# Altium integrated library AD Logic Switch.IntLib: 6 symbols
Pins are listed as number, name and electrical type; pins without a type are passive.

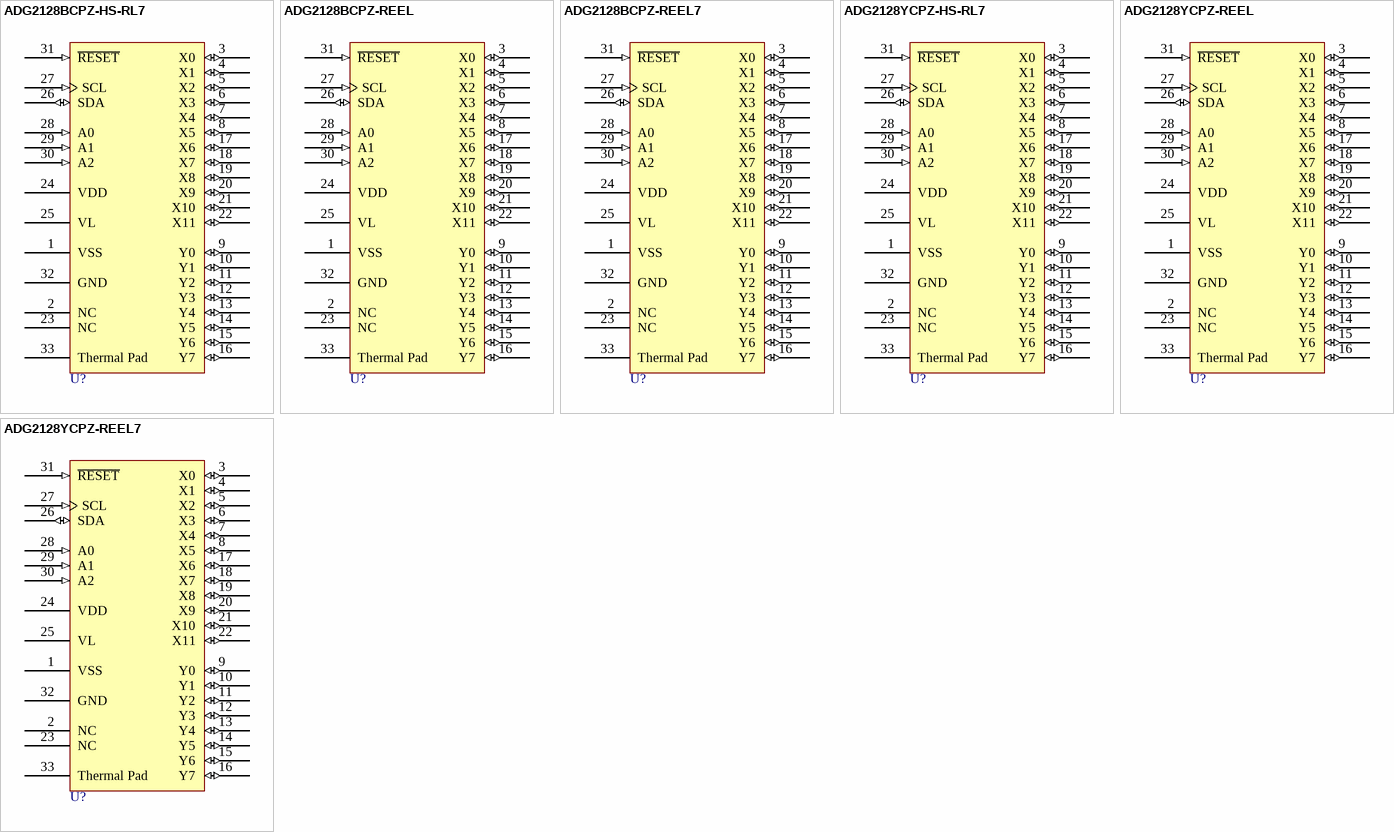
[diagram p0: symbols ADG2128BCPZ-HS-RL7 to ADG2128YCPZ-REEL7]

## ADG2128BCPZ-HS-RL7
designator U?
I2C CMOS 8x12 Unbuffered Analog Switch Array with Dual/Single Supplies; Published: 30-May-2008; DatasheetVersion: revA, May-2006; PackageVersion: May-2006; PackageReference: CP-32-3; Publisher: Altium Limited; PackageDescription: 32-Pin Lead Frame Chip Scale Package [LFCSP_VQ]; Code_JEDEC: MO-220-VHHD-2; ComponentLink1Description: Manufacturer Link; ComponentLink1URL: http://www.analog.com/; ComponentLink2Description: Datasheet; ComponentLink2URL: http://www.analog.com/UploadedFiles/Data_Sheets/ADG2128.pdf
footprint CP-32-3_N (QFN, 32-Leads, Body 5x5mm, Pitch 0.5mm, IPC Medium Density)
footprint CP-32-3_L (QFN, 32-Leads, Body 5x5mm, Pitch 0.5mm, IPC High Density)
footprint CP-32-3_M (QFN, 32-Leads, Body 5x5mm, Pitch 0.5mm, IPC Low Density)
pins: 1 VSS (power), 2 NC, 3 X0 (io), 4 X1 (io), 5 X2 (io), 6 X3 (io), 7 X4 (io), 8 X5 (io), 9 Y0 (io), 10 Y1 (io), 11 Y2 (io), 12 Y3 (io), 13 Y4 (io), 14 Y5 (io), 15 Y6 (io), 16 Y7 (io), 17 X6 (io), 18 X7 (io), 19 X8 (io), 20 X9 (io), 21 X10 (io), 22 X11 (io), 23 NC, 24 VDD (power), 25 VL (power), 26 SDA (io), 27 SCL (in), 28 A0 (in), 29 A1 (in), 30 A2 (in), 31 ~{RESET} (in), 32 GND (power), 33 Thermal Pad

## ADG2128BCPZ-REEL
designator U?
I2C CMOS 8x12 Unbuffered Analog Switch Array with Dual/Single Supplies; Published: 30-May-2008; DatasheetVersion: revA, May-2006; PackageVersion: May-2006; PackageReference: CP-32-3; Publisher: Altium Limited; PackageDescription: 32-Pin Lead Frame Chip Scale Package [LFCSP_VQ]; Code_JEDEC: MO-220-VHHD-2; ComponentLink1Description: Manufacturer Link; ComponentLink1URL: http://www.analog.com/; ComponentLink2Description: Datasheet; ComponentLink2URL: http://www.analog.com/UploadedFiles/Data_Sheets/ADG2128.pdf
footprint CP-32-3_N (QFN, 32-Leads, Body 5x5mm, Pitch 0.5mm, IPC Medium Density)
footprint CP-32-3_L (QFN, 32-Leads, Body 5x5mm, Pitch 0.5mm, IPC High Density)
footprint CP-32-3_M (QFN, 32-Leads, Body 5x5mm, Pitch 0.5mm, IPC Low Density)
pins: 1 VSS (power), 2 NC, 3 X0 (io), 4 X1 (io), 5 X2 (io), 6 X3 (io), 7 X4 (io), 8 X5 (io), 9 Y0 (io), 10 Y1 (io), 11 Y2 (io), 12 Y3 (io), 13 Y4 (io), 14 Y5 (io), 15 Y6 (io), 16 Y7 (io), 17 X6 (io), 18 X7 (io), 19 X8 (io), 20 X9 (io), 21 X10 (io), 22 X11 (io), 23 NC, 24 VDD (power), 25 VL (power), 26 SDA (io), 27 SCL (in), 28 A0 (in), 29 A1 (in), 30 A2 (in), 31 ~{RESET} (in), 32 GND (power), 33 Thermal Pad

## ADG2128BCPZ-REEL7
designator U?
I2C CMOS 8x12 Unbuffered Analog Switch Array with Dual/Single Supplies; Published: 30-May-2008; DatasheetVersion: revA, May-2006; PackageVersion: May-2006; PackageReference: CP-32-3; Publisher: Altium Limited; PackageDescription: 32-Pin Lead Frame Chip Scale Package [LFCSP_VQ]; Code_JEDEC: MO-220-VHHD-2; ComponentLink1Description: Manufacturer Link; ComponentLink1URL: http://www.analog.com/; ComponentLink2Description: Datasheet; ComponentLink2URL: http://www.analog.com/UploadedFiles/Data_Sheets/ADG2128.pdf
footprint CP-32-3_N (QFN, 32-Leads, Body 5x5mm, Pitch 0.5mm, IPC Medium Density)
footprint CP-32-3_L (QFN, 32-Leads, Body 5x5mm, Pitch 0.5mm, IPC High Density)
footprint CP-32-3_M (QFN, 32-Leads, Body 5x5mm, Pitch 0.5mm, IPC Low Density)
pins: 1 VSS (power), 2 NC, 3 X0 (io), 4 X1 (io), 5 X2 (io), 6 X3 (io), 7 X4 (io), 8 X5 (io), 9 Y0 (io), 10 Y1 (io), 11 Y2 (io), 12 Y3 (io), 13 Y4 (io), 14 Y5 (io), 15 Y6 (io), 16 Y7 (io), 17 X6 (io), 18 X7 (io), 19 X8 (io), 20 X9 (io), 21 X10 (io), 22 X11 (io), 23 NC, 24 VDD (power), 25 VL (power), 26 SDA (io), 27 SCL (in), 28 A0 (in), 29 A1 (in), 30 A2 (in), 31 ~{RESET} (in), 32 GND (power), 33 Thermal Pad

## ADG2128YCPZ-HS-RL7
designator U?
I2C CMOS 8x12 Unbuffered Analog Switch Array with Dual/Single Supplies; Published: 30-May-2008; DatasheetVersion: revA, May-2006; PackageVersion: May-2006; PackageReference: CP-32-3; Publisher: Altium Limited; PackageDescription: 32-Pin Lead Frame Chip Scale Package [LFCSP_VQ]; Code_JEDEC: MO-220-VHHD-2; ComponentLink1Description: Manufacturer Link; ComponentLink1URL: http://www.analog.com/; ComponentLink2Description: Datasheet; ComponentLink2URL: http://www.analog.com/UploadedFiles/Data_Sheets/ADG2128.pdf
footprint CP-32-3_N (QFN, 32-Leads, Body 5x5mm, Pitch 0.5mm, IPC Medium Density)
footprint CP-32-3_L (QFN, 32-Leads, Body 5x5mm, Pitch 0.5mm, IPC High Density)
footprint CP-32-3_M (QFN, 32-Leads, Body 5x5mm, Pitch 0.5mm, IPC Low Density)
pins: 1 VSS (power), 2 NC, 3 X0 (io), 4 X1 (io), 5 X2 (io), 6 X3 (io), 7 X4 (io), 8 X5 (io), 9 Y0 (io), 10 Y1 (io), 11 Y2 (io), 12 Y3 (io), 13 Y4 (io), 14 Y5 (io), 15 Y6 (io), 16 Y7 (io), 17 X6 (io), 18 X7 (io), 19 X8 (io), 20 X9 (io), 21 X10 (io), 22 X11 (io), 23 NC, 24 VDD (power), 25 VL (power), 26 SDA (io), 27 SCL (in), 28 A0 (in), 29 A1 (in), 30 A2 (in), 31 ~{RESET} (in), 32 GND (power), 33 Thermal Pad

## ADG2128YCPZ-REEL
designator U?
I2C CMOS 8x12 Unbuffered Analog Switch Array with Dual/Single Supplies; Published: 30-May-2008; DatasheetVersion: revA, May-2006; PackageVersion: May-2006; PackageReference: CP-32-3; Publisher: Altium Limited; PackageDescription: 32-Pin Lead Frame Chip Scale Package [LFCSP_VQ]; Code_JEDEC: MO-220-VHHD-2; ComponentLink1Description: Manufacturer Link; ComponentLink1URL: http://www.analog.com/; ComponentLink2Description: Datasheet; ComponentLink2URL: http://www.analog.com/UploadedFiles/Data_Sheets/ADG2128.pdf
footprint CP-32-3_N (QFN, 32-Leads, Body 5x5mm, Pitch 0.5mm, IPC Medium Density)
footprint CP-32-3_L (QFN, 32-Leads, Body 5x5mm, Pitch 0.5mm, IPC High Density)
footprint CP-32-3_M (QFN, 32-Leads, Body 5x5mm, Pitch 0.5mm, IPC Low Density)
pins: 1 VSS (power), 2 NC, 3 X0 (io), 4 X1 (io), 5 X2 (io), 6 X3 (io), 7 X4 (io), 8 X5 (io), 9 Y0 (io), 10 Y1 (io), 11 Y2 (io), 12 Y3 (io), 13 Y4 (io), 14 Y5 (io), 15 Y6 (io), 16 Y7 (io), 17 X6 (io), 18 X7 (io), 19 X8 (io), 20 X9 (io), 21 X10 (io), 22 X11 (io), 23 NC, 24 VDD (power), 25 VL (power), 26 SDA (io), 27 SCL (in), 28 A0 (in), 29 A1 (in), 30 A2 (in), 31 ~{RESET} (in), 32 GND (power), 33 Thermal Pad

## ADG2128YCPZ-REEL7
designator U?
I2C CMOS 8x12 Unbuffered Analog Switch Array with Dual/Single Supplies; Published: 30-May-2008; DatasheetVersion: revA, May-2006; PackageVersion: May-2006; PackageReference: CP-32-3; Publisher: Altium Limited; PackageDescription: 32-Pin Lead Frame Chip Scale Package [LFCSP_VQ]; Code_JEDEC: MO-220-VHHD-2; ComponentLink1Description: Manufacturer Link; ComponentLink1URL: http://www.analog.com/; ComponentLink2Description: Datasheet; ComponentLink2URL: http://www.analog.com/UploadedFiles/Data_Sheets/ADG2128.pdf
footprint CP-32-3_N (QFN, 32-Leads, Body 5x5mm, Pitch 0.5mm, IPC Medium Density)
footprint CP-32-3_L (QFN, 32-Leads, Body 5x5mm, Pitch 0.5mm, IPC High Density)
footprint CP-32-3_M (QFN, 32-Leads, Body 5x5mm, Pitch 0.5mm, IPC Low Density)
pins: 1 VSS (power), 2 NC, 3 X0 (io), 4 X1 (io), 5 X2 (io), 6 X3 (io), 7 X4 (io), 8 X5 (io), 9 Y0 (io), 10 Y1 (io), 11 Y2 (io), 12 Y3 (io), 13 Y4 (io), 14 Y5 (io), 15 Y6 (io), 16 Y7 (io), 17 X6 (io), 18 X7 (io), 19 X8 (io), 20 X9 (io), 21 X10 (io), 22 X11 (io), 23 NC, 24 VDD (power), 25 VL (power), 26 SDA (io), 27 SCL (in), 28 A0 (in), 29 A1 (in), 30 A2 (in), 31 ~{RESET} (in), 32 GND (power), 33 Thermal Pad